# EAGLE library part КМН2Вхх (library dc-dc)
КМН2 – это серия изолированных DC/DC преобразователей мощностью 2Вт с широким (2:1) диапазоном входного напряжения. Преобразователи изготавливаются в компактных (21,8 х 11,1 х 9,2 мм) корпусах или в бескорпусном исполнении, имеющем превосходные массогабаритные показатели. Производитель: ООО «АЕДОН», г. Воронеж.
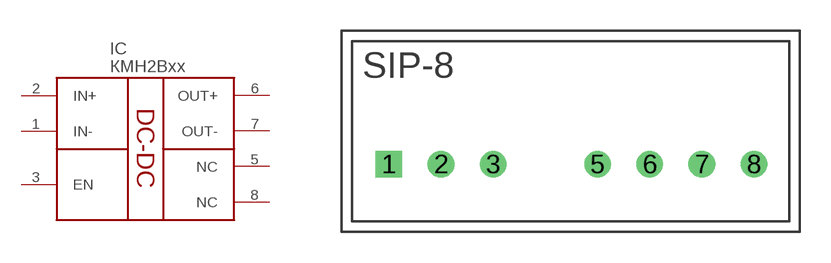
[diagram p1: symbol with the pads of SIP-8; footprint SIP-8]

Designator prefix IC

## КМН2Вхх  [SIP-8]
1  IN-  pwr
2  IN+  pwr
3  EN  in
5  NC  nc
6  OUT+  pwr
7  OUT-  pwr
8  NC  nc

## Footprint SIP-8 (pad centres in mm)
drill 0.6 pad 1.3 square: 1 -8.8,-1.6
drill 0.6 pad 1.3: 2 -6.26,-1.6; 3 -3.72,-1.6; 5 1.36,-1.6; 6 3.9,-1.6; 7 6.44,-1.6; 8 8.98,-1.6